# Altium integrated library Analog Devices Temperature Sensors.IntLib: 271 symbols (part 3 of 14)
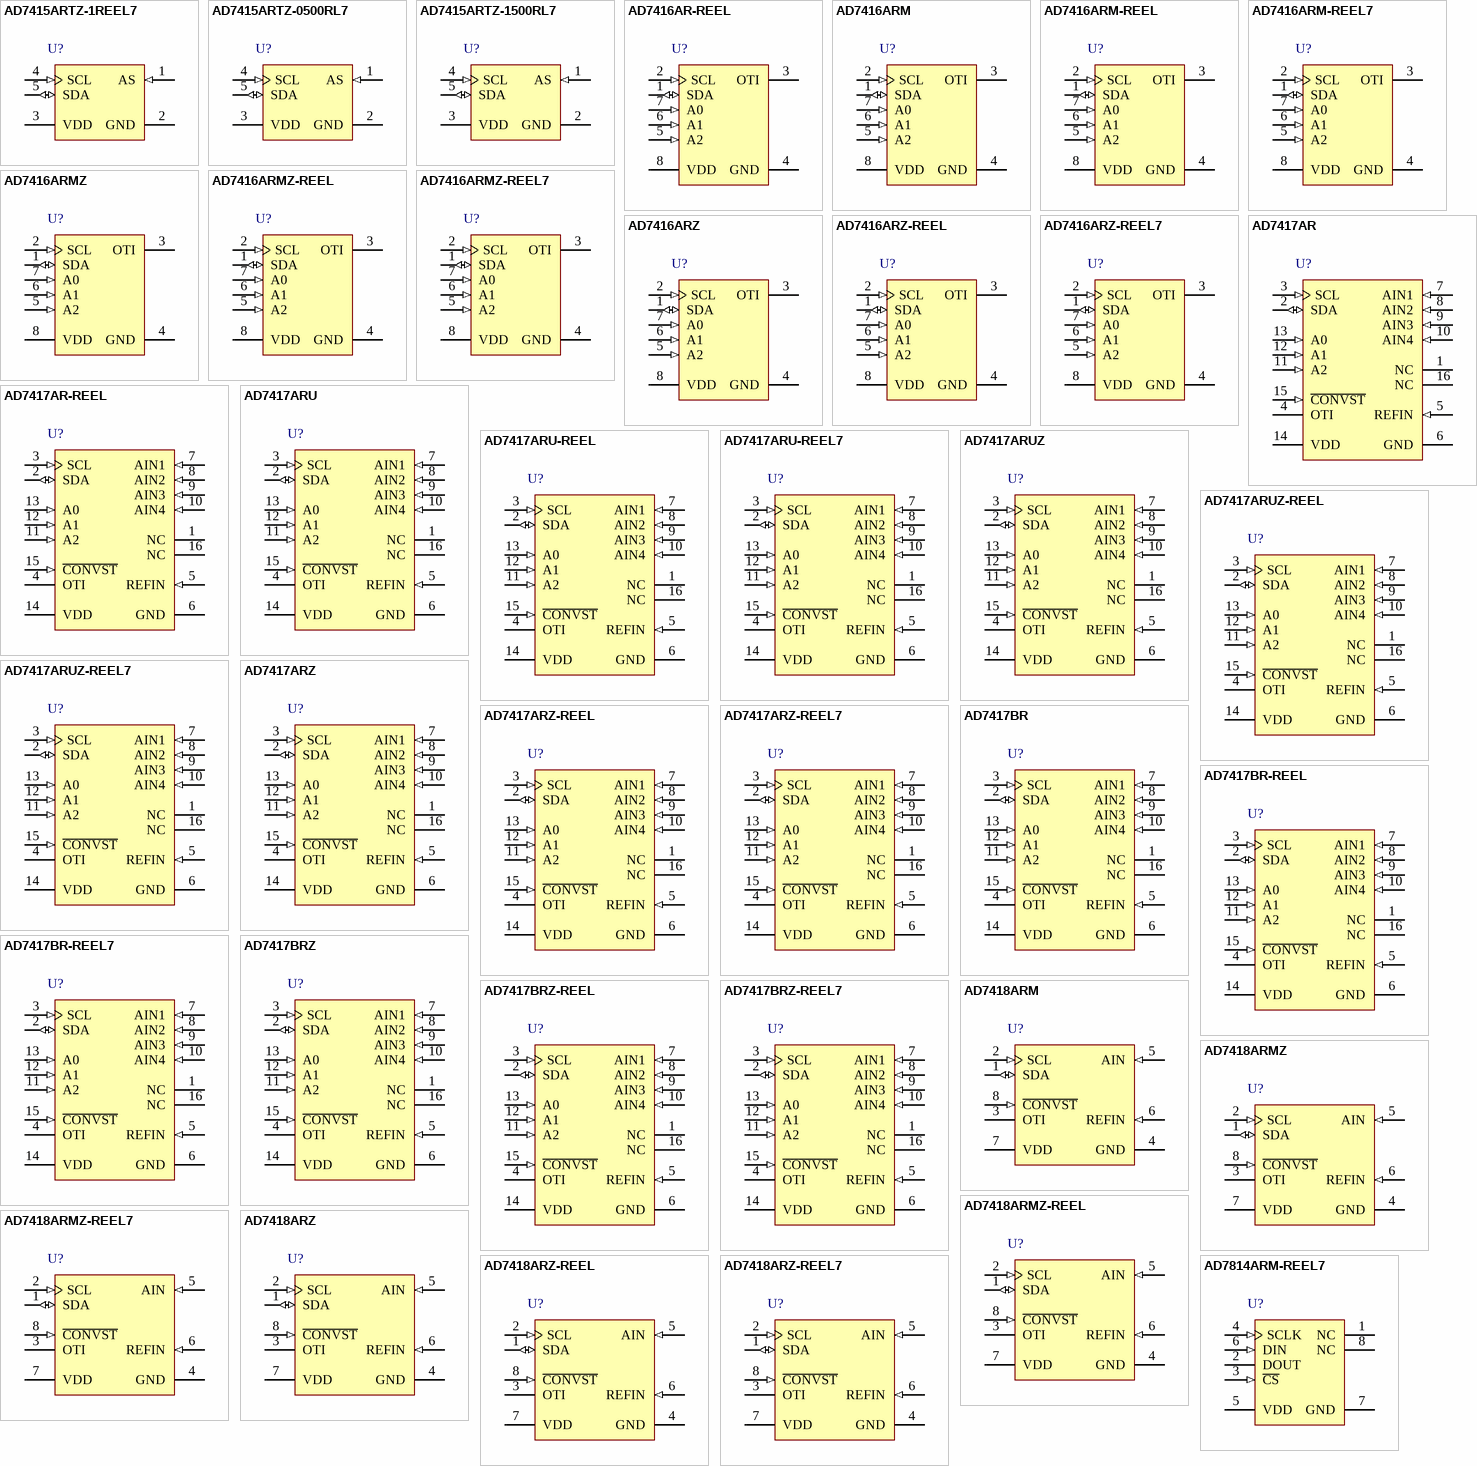
[diagram p9: symbols AD7415ARTZ-1REEL7 to AD7814ARM-REEL7]

## AD7416ARMZ-REEL7
designator U?
10-Bit Digital Temperature Sensor and Four Single-Channel ADCs, 2.7 to 5.5 V Supply, Industrial, 8-pin SOP (RM-8), Reel; Manufacturer: Analog Devices; PartNumber: AD7416ARMZ-REEL7; DatasheetVersion: Rev. I; PackageVersion: 08/2005; PackageReference: RM-8; PackageDescription: 8-Pin Mini Small Outline Package, Body 3 x 3 mm, Pitch 0.65 mm; Supplier 1: Digi-Key; Supplier Part Number 1: AD7416ARMZ-REEL7TR-ND; Supplier 2: Digi-Key; Supplier Part Number 2: AD7416ARMZ-REEL7CT-ND; Supplier 3: Digi-Key; Supplier Part Number 3: AD7416ARMZ-REEL7DKR-ND; Supplier 4: Newark; Supplier Part Number 4: 59K4788; Supplier 5: Mouser; Supplier Part Number 5: 584-AD7416ARMZ-R7; Packing: Reel; Supply Voltage Range: 2.7 to 5.5 V; Mounting Technology: Surface Mount; Code_JEDEC: MO-187-AA; ComponentLink1Description: Manufacturer URL; ComponentLink1URL: http://www.analog.com/en/index.html; ComponentLink2Description: Datasheet; ComponentLink2URL: http://www.analog.com/static/imported-files/data_sheets/AD7416_7417_7418.pdf; ComponentLink3Description: Package Specification; ComponentLink3URL: http://www.analog.com/static/imported-files/packages/PKG_PDF/MSOP%28RM%29/RM_8.pdf; ComponentLink4Description: Product URL; ComponentLink4URL: http://www.analog.com/en/mems-sensors/digital-temperature-sensors/ad7416/products/product.html
footprint ADI-RM-8_N (SOP, 8-Leads, Body 3x3mm, Pitch 0.65mm, IPC Medium Density)
footprint ADI-RM-8_L (SOP, 8-Leads, Body 3x3mm, Pitch 0.65mm, IPC High Density)
footprint ADI-RM-8_M (SOP, 8-Leads, Body 3x3mm, Pitch 0.65mm, IPC Low Density)
pins: 1 SDA (io) "Digital I/O. Serial bus bidirectional data. Push-pull output.", 2 SCL (in) "Digital Input. Serial bus clock.", 3 OTI (oc) "This pin is a logic output. The OTI is set if the result of a conversion on Channel 0 (temperature sensor) is greater than an 8-bit word in the TOTI setpoint register. The signal is reset at the end of a serial read (See Datasheet)", 4 GND (power) "Ground reference for track-and-hold, comparator and capacitor DAC, and digital circuitry.", 5 A2 (in) "Digital Input. This is the highest programmable bit of the serial bus address.", 6 A1 (in) "Digital Input. This is the middle programmable bit of the serial bus address.", 7 A0 (in) "Digital Input. This is the lowest programmable bit of the serial bus address.", 8 VDD (power) "Positive Supply Voltage, 2.7 V to 5.5 V."

## AD7416ARZ
designator U?
10-Bit Digital Temperature Sensor and Four Single-Channel ADCs, 2.7 to 5.5 V Supply, Industrial, 8-pin SOIC (R-8), Tube; Manufacturer: Analog Devices; PartNumber: AD7416ARZ; DatasheetVersion: Rev. I; PackageVersion: 060506-A, 06/2006; PackageReference: R-8; PackageDescription: 8-Pin Standard Small Outline Package, Body 4.9 x 3.9 mm, Pitch 1.27 mm; Supplier 1: Digi-Key; Supplier Part Number 1: AD7416ARZ-ND; Supplier 2: Farnell; Supplier Part Number 2: 9425560; Supplier 3: Newark; Supplier Part Number 3: 31M4253; Supplier 4: Newark; Supplier Part Number 4: 19M0868; Supplier 5: Mouser; Supplier Part Number 5: 584-AD7416ARZ; Packing: Tube; Supply Voltage Range: 2.7 to 5.5 V; Mounting Technology: Surface Mount; Code_JEDEC: MS-012-AA; ComponentLink1Description: Manufacturer URL; ComponentLink1URL: http://www.analog.com/en/index.html; ComponentLink2Description: Datasheet; ComponentLink2URL: http://www.analog.com/static/imported-files/data_sheets/AD7416_7417_7418.pdf; ComponentLink3Description: Package Specification; ComponentLink3URL: http://www.analog.com/static/imported-files/packages/PKG_PDF/SOIC_Narrow%20(R)/R_8.pdf; ComponentLink4Description: Product URL; ComponentLink4URL: http://www.analog.com/en/mems-sensors/digital-temperature-sensors/ad7416/products/product.html
footprint ADI-R-8_N (SOIC, 8-Leads, Body 4.9x3.9mm, Pitch 1.27mm, IPC Medium Density)
footprint ADI-R-8_L (SOIC, 8-Leads, Body 4.9x3.9mm, Pitch 1.27mm, IPC High Density)
footprint ADI-R-8_M (SOIC, 8-Leads, Body 4.9x3.9mm, Pitch 1.27mm, IPC Low Density)
pins: 1 SDA (io) "Digital I/O. Serial bus bidirectional data. Push-pull output.", 2 SCL (in) "Digital Input. Serial bus clock.", 3 OTI (oc) "This pin is a logic output. The OTI is set if the result of a conversion on Channel 0 (temperature sensor) is greater than an 8-bit word in the TOTI setpoint register. The signal is reset at the end of a serial read (See Datasheet)", 4 GND (power) "Ground reference for track-and-hold, comparator and capacitor DAC, and digital circuitry.", 5 A2 (in) "Digital Input. This is the highest programmable bit of the serial bus address.", 6 A1 (in) "Digital Input. This is the middle programmable bit of the serial bus address.", 7 A0 (in) "Digital Input. This is the lowest programmable bit of the serial bus address.", 8 VDD (power) "Positive Supply Voltage, 2.7 V to 5.5 V."

## AD7416ARZ-REEL
designator U?
10-Bit Digital Temperature Sensor and Four Single-Channel ADCs, 2.7 to 5.5 V Supply, Industrial, 8-pin SOIC (R-8), Reel; Manufacturer: Analog Devices; PartNumber: AD7416ARZ-REEL; DatasheetVersion: Rev. I; PackageVersion: 060506-A, 06/2006; PackageReference: R-8; PackageDescription: 8-Pin Standard Small Outline Package, Body 4.9 x 3.9 mm, Pitch 1.27 mm; Supplier 1: Digi-Key; Supplier Part Number 1: AD7416ARZ-REEL-ND; Supplier 2: Newark; Supplier Part Number 2: 59K4790; Supplier 3: Mouser; Supplier Part Number 3: 584-AD7416ARZ-R; Packing: Reel; Supply Voltage Range: 2.7 to 5.5 V; Mounting Technology: Surface Mount; Code_JEDEC: MS-012-AA; ComponentLink1Description: Manufacturer URL; ComponentLink1URL: http://www.analog.com/en/index.html; ComponentLink2Description: Datasheet; ComponentLink2URL: http://www.analog.com/static/imported-files/data_sheets/AD7416_7417_7418.pdf; ComponentLink3Description: Package Specification; ComponentLink3URL: http://www.analog.com/static/imported-files/packages/PKG_PDF/SOIC_Narrow%20(R)/R_8.pdf; ComponentLink4Description: Product URL; ComponentLink4URL: http://www.analog.com/en/mems-sensors/digital-temperature-sensors/ad7416/products/product.html
footprint ADI-R-8_N (SOIC, 8-Leads, Body 4.9x3.9mm, Pitch 1.27mm, IPC Medium Density)
footprint ADI-R-8_L (SOIC, 8-Leads, Body 4.9x3.9mm, Pitch 1.27mm, IPC High Density)
footprint ADI-R-8_M (SOIC, 8-Leads, Body 4.9x3.9mm, Pitch 1.27mm, IPC Low Density)
pins: 1 SDA (io) "Digital I/O. Serial bus bidirectional data. Push-pull output.", 2 SCL (in) "Digital Input. Serial bus clock.", 3 OTI (oc) "This pin is a logic output. The OTI is set if the result of a conversion on Channel 0 (temperature sensor) is greater than an 8-bit word in the TOTI setpoint register. The signal is reset at the end of a serial read (See Datasheet)", 4 GND (power) "Ground reference for track-and-hold, comparator and capacitor DAC, and digital circuitry.", 5 A2 (in) "Digital Input. This is the highest programmable bit of the serial bus address.", 6 A1 (in) "Digital Input. This is the middle programmable bit of the serial bus address.", 7 A0 (in) "Digital Input. This is the lowest programmable bit of the serial bus address.", 8 VDD (power) "Positive Supply Voltage, 2.7 V to 5.5 V."

## AD7416ARZ-REEL7
designator U?
10-Bit Digital Temperature Sensor and Four Single-Channel ADCs, 2.7 to 5.5 V Supply, Industrial, 8-pin SOIC (R-8), Reel; Manufacturer: Analog Devices; PartNumber: AD7416ARZ-REEL7; DatasheetVersion: Rev. I; PackageVersion: 060506-A, 06/2006; PackageReference: R-8; PackageDescription: 8-Pin Standard Small Outline Package, Body 4.9 x 3.9 mm, Pitch 1.27 mm; Supplier 1: Digi-Key; Supplier Part Number 1: AD7416ARZ-REEL7TR-ND; Supplier 2: Digi-Key; Supplier Part Number 2: AD7416ARZ-REEL7CT-ND; Supplier 3: Digi-Key; Supplier Part Number 3: AD7416ARZ-REEL7DKR-ND; Supplier 4: Newark; Supplier Part Number 4: 59K4791; Supplier 5: Mouser; Supplier Part Number 5: 584-AD7416ARZ-R7; Packing: Reel; Supply Voltage Range: 2.7 to 5.5 V; Mounting Technology: Surface Mount; Code_JEDEC: MS-012-AA; ComponentLink1Description: Manufacturer URL; ComponentLink1URL: http://www.analog.com/en/index.html; ComponentLink2Description: Datasheet; ComponentLink2URL: http://www.analog.com/static/imported-files/data_sheets/AD7416_7417_7418.pdf; ComponentLink3Description: Package Specification; ComponentLink3URL: http://www.analog.com/static/imported-files/packages/PKG_PDF/SOIC_Narrow%20(R)/R_8.pdf; ComponentLink4Description: Product URL; ComponentLink4URL: http://www.analog.com/en/mems-sensors/digital-temperature-sensors/ad7416/products/product.html
footprint ADI-R-8_N (SOIC, 8-Leads, Body 4.9x3.9mm, Pitch 1.27mm, IPC Medium Density)
footprint ADI-R-8_L (SOIC, 8-Leads, Body 4.9x3.9mm, Pitch 1.27mm, IPC High Density)
footprint ADI-R-8_M (SOIC, 8-Leads, Body 4.9x3.9mm, Pitch 1.27mm, IPC Low Density)
pins: 1 SDA (io) "Digital I/O. Serial bus bidirectional data. Push-pull output.", 2 SCL (in) "Digital Input. Serial bus clock.", 3 OTI (oc) "This pin is a logic output. The OTI is set if the result of a conversion on Channel 0 (temperature sensor) is greater than an 8-bit word in the TOTI setpoint register. The signal is reset at the end of a serial read (See Datasheet)", 4 GND (power) "Ground reference for track-and-hold, comparator and capacitor DAC, and digital circuitry.", 5 A2 (in) "Digital Input. This is the highest programmable bit of the serial bus address.", 6 A1 (in) "Digital Input. This is the middle programmable bit of the serial bus address.", 7 A0 (in) "Digital Input. This is the lowest programmable bit of the serial bus address.", 8 VDD (power) "Positive Supply Voltage, 2.7 V to 5.5 V."

## AD7417AR
designator U?
10-Bit Digital Temperature Sensor and Four Single-Channel ADCs, 2.7 to 5.5 V Supply, Industrial, 16-pin SOIC (R-16), Tube; Manufacturer: Analog Devices; PartNumber: AD7417AR; #_ADC_channels: 4; DatasheetVersion: Rev. I; PackageVersion: 060606-A, 06/2006; PackageReference: R-16; PackageDescription: 16-Pin Standard Small Outline Package, Body 9.9 x 3.9 mm, Pitch 1.27 mm; Supplier 1: Digi-Key; Supplier Part Number 1: AD7417AR-ND; Supplier 2: Newark; Supplier Part Number 2: 56J9304; Supplier 3: Mouser; Supplier Part Number 3: 584-AD7417AR; Packing: Tube; Supply Voltage Range: 2.7 to 5.5 V; Mounting Technology: Surface Mount; Code_JEDEC: MS-012-AC; ComponentLink1Description: Manufacturer URL; ComponentLink1URL: http://www.analog.com/en/index.html; ComponentLink2Description: Datasheet; ComponentLink2URL: http://www.analog.com/static/imported-files/data_sheets/AD7416_7417_7418.pdf; ComponentLink3Description: Package Specification; ComponentLink3URL: http://www.analog.com/static/imported-files/packages/PKG_PDF/SOIC_Narrow%20(R)/R_16.pdf; ComponentLink4Description: Product URL; ComponentLink4URL: http://www.analog.com/en/mems-sensors/digital-temperature-sensors/ad7417/products/product.html
footprint ADI-R-16_N (SOIC, 16-Leads, Body 9.9x3.9mm, Pitch 1.27mm, IPC Medium Density)
footprint ADI-R-16_L (SOIC, 16-Leads, Body 9.9x3.9mm, Pitch 1.27mm, IPC High Density)
footprint ADI-R-16_M (SOIC, 16-Leads, Body 9.9x3.9mm, Pitch 1.27mm, IPC Low Density)
pins: 1 NC "No Connection. Do not connect anything to this pin.", 2 SDA (io) "Digital I/O. Serial bus bidirectional data. Push-pull output.", 3 SCL (in) "Digital Input. Serial bus clock.", 4 OTI (oc) "This pin is a logic output. The overtemperature indicator (OTI) is set if the result of a conversion on Channel 0 (temperature sensor) is greater than an 8-bit word in the TOTI setpoint register. The signal is reset at the (See Datasheet)", 5 REFIN (in) "Reference Input. An external 2.5 V reference can be connected to the AD7417 at this pin. To enable the on-chip reference, the REFIN pin should be tied to GND. If an external reference is connected to the AD7417, the internal (See Datasheet)", 6 GND (power) "Ground reference for track-and-hold, comparator and capacitor DAC, and digital circuitry.", 7 AIN1 (in) "Analog Input Channels. The AD7417 has four analog input channels. The input channels are single-ended with respect to GND. The input channels can convert voltage signals in the range of 0 V to VREF. A channel is selected by (See Datasheet)", 8 AIN2 (in) "Analog Input Channels. The AD7417 has four analog input channels. The input channels are single-ended with respect to GND. The input channels can convert voltage signals in the range of 0 V to VREF. A channel is selected by (See Datasheet)", 9 AIN3 (in) "Analog Input Channels. The AD7417 has four analog input channels. The input channels are single-ended with respect to GND. The input channels can convert voltage signals in the range of 0 V to VREF. A channel is selected by (See Datasheet)", 10 AIN4 (in) "Analog Input Channels. The AD7417 has four analog input channels. The input channels are single-ended with respect to GND. The input channels can convert voltage signals in the range of 0 V to VREF. A channel is selected by (See Datasheet)", 11 A2 (in) "Digital Input. This is the highest programmable bit of the serial bus address.", 12 A1 (in) "Digital Input. This is the middle programmable bit of the serial bus address.", 13 A0 (in) "Digital Input. This is the lowest programmable bit of the serial bus address.", 14 VDD (power) "Positive Supply Voltage, 2.7 V to 5.5 V.", 15 ~{CONVST} (in) "Logic Input Signal. Convert start signal. The rising edge of this signal fully powers up the part. The power-up time for the part is 4 µs. If the C\O\N\V\S\T\ pulse is greater than 4 µs, the falling edge of C\O\N\V\S\T\ (See Datasheet)", 16 NC "No Connection. Do not connect anything to this pin."

## AD7417AR-REEL
designator U?
10-Bit Digital Temperature Sensor and Four Single-Channel ADCs, 2.7 to 5.5 V Supply, Industrial, 16-pin SOIC (R-16), Reel; Manufacturer: Analog Devices; PartNumber: AD7417AR-REEL; #_ADC_channels: 4; DatasheetVersion: Rev. I; PackageVersion: 060606-A, 06/2006; PackageReference: R-16; PackageDescription: 16-Pin Standard Small Outline Package, Body 9.9 x 3.9 mm, Pitch 1.27 mm; Supplier 1: Digi-Key; Supplier Part Number 1: AD7417AR-REEL-ND; Supplier 2: Mouser; Supplier Part Number 2: 584-AD7417AR-R; Packing: Reel; Supply Voltage Range: 2.7 to 5.5 V; Mounting Technology: Surface Mount; Code_JEDEC: MS-012-AC; ComponentLink1Description: Manufacturer URL; ComponentLink1URL: http://www.analog.com/en/index.html; ComponentLink2Description: Datasheet; ComponentLink2URL: http://www.analog.com/static/imported-files/data_sheets/AD7416_7417_7418.pdf; ComponentLink3Description: Package Specification; ComponentLink3URL: http://www.analog.com/static/imported-files/packages/PKG_PDF/SOIC_Narrow%20(R)/R_16.pdf; ComponentLink4Description: Product URL; ComponentLink4URL: http://www.analog.com/en/mems-sensors/digital-temperature-sensors/ad7417/products/product.html
footprint ADI-R-16_N (SOIC, 16-Leads, Body 9.9x3.9mm, Pitch 1.27mm, IPC Medium Density)
footprint ADI-R-16_L (SOIC, 16-Leads, Body 9.9x3.9mm, Pitch 1.27mm, IPC High Density)
footprint ADI-R-16_M (SOIC, 16-Leads, Body 9.9x3.9mm, Pitch 1.27mm, IPC Low Density)
pins: 1 NC "No Connection. Do not connect anything to this pin.", 2 SDA (io) "Digital I/O. Serial bus bidirectional data. Push-pull output.", 3 SCL (in) "Digital Input. Serial bus clock.", 4 OTI (oc) "This pin is a logic output. The overtemperature indicator (OTI) is set if the result of a conversion on Channel 0 (temperature sensor) is greater than an 8-bit word in the TOTI setpoint register. The signal is reset at the (See Datasheet)", 5 REFIN (in) "Reference Input. An external 2.5 V reference can be connected to the AD7417 at this pin. To enable the on-chip reference, the REFIN pin should be tied to GND. If an external reference is connected to the AD7417, the internal (See Datasheet)", 6 GND (power) "Ground reference for track-and-hold, comparator and capacitor DAC, and digital circuitry.", 7 AIN1 (in) "Analog Input Channels. The AD7417 has four analog input channels. The input channels are single-ended with respect to GND. The input channels can convert voltage signals in the range of 0 V to VREF. A channel is selected by (See Datasheet)", 8 AIN2 (in) "Analog Input Channels. The AD7417 has four analog input channels. The input channels are single-ended with respect to GND. The input channels can convert voltage signals in the range of 0 V to VREF. A channel is selected by (See Datasheet)", 9 AIN3 (in) "Analog Input Channels. The AD7417 has four analog input channels. The input channels are single-ended with respect to GND. The input channels can convert voltage signals in the range of 0 V to VREF. A channel is selected by (See Datasheet)", 10 AIN4 (in) "Analog Input Channels. The AD7417 has four analog input channels. The input channels are single-ended with respect to GND. The input channels can convert voltage signals in the range of 0 V to VREF. A channel is selected by (See Datasheet)", 11 A2 (in) "Digital Input. This is the highest programmable bit of the serial bus address.", 12 A1 (in) "Digital Input. This is the middle programmable bit of the serial bus address.", 13 A0 (in) "Digital Input. This is the lowest programmable bit of the serial bus address.", 14 VDD (power) "Positive Supply Voltage, 2.7 V to 5.5 V.", 15 ~{CONVST} (in) "Logic Input Signal. Convert start signal. The rising edge of this signal fully powers up the part. The power-up time for the part is 4 µs. If the C\O\N\V\S\T\ pulse is greater than 4 µs, the falling edge of C\O\N\V\S\T\ (See Datasheet)", 16 NC "No Connection. Do not connect anything to this pin."

## AD7417ARU
designator U?
10-Bit Digital Temperature Sensor and Four Single-Channel ADCs, 2.7 to 5.5 V Supply, Industrial, 16-pin SOP (RU-16), Tube; Manufacturer: Analog Devices; PartNumber: AD7417ARU; #_ADC_channels: 4; DatasheetVersion: Rev. I; PackageVersion: 11/2002; PackageReference: RU-16; PackageDescription: 16-Pin Thin Shrink Small Outline Package, Body 5 x 4.4 mm, Pitch 0.65 mm; Supplier 1: Digi-Key; Supplier Part Number 1: AD7417ARU-ND; Supplier 2: Mouser; Supplier Part Number 2: 584-AD7417ARU; Packing: Tube; Supply Voltage Range: 2.7 to 5.5 V; Mounting Technology: Surface Mount; Code_JEDEC: MO-153AB; ComponentLink1Description: Manufacturer URL; ComponentLink1URL: http://www.analog.com/en/index.html; ComponentLink2Description: Datasheet; ComponentLink2URL: http://www.analog.com/static/imported-files/data_sheets/AD7416_7417_7418.pdf; ComponentLink3Description: Package Specification; ComponentLink3URL: http:/www.analog.com/static/imported-files/packages/36244347913743854010197452789RU16.pdf; ComponentLink4Description: Product URL; ComponentLink4URL: http://www.analog.com/en/mems-sensors/digital-temperature-sensors/ad7417/products/product.html
footprint ADI-RU-16_N (SOP, 16-Leads, Body 5x4.4mm, Pitch 0.65mm, IPC Medium Density)
footprint ADI-RU-16_L (SOP, 16-Leads, Body 5x4.4mm, Pitch 0.65mm, IPC High Density)
footprint ADI-RU-16_M (SOP, 16-Leads, Body 5x4.4mm, Pitch 0.65mm, IPC Low Density)
pins: 1 NC "No Connection. Do not connect anything to this pin.", 2 SDA (io) "Digital I/O. Serial bus bidirectional data. Push-pull output.", 3 SCL (in) "Digital Input. Serial bus clock.", 4 OTI (oc) "This pin is a logic output. The overtemperature indicator (OTI) is set if the result of a conversion on Channel 0 (temperature sensor) is greater than an 8-bit word in the TOTI setpoint register. The signal is reset at the (See Datasheet)", 5 REFIN (in) "Reference Input. An external 2.5 V reference can be connected to the AD7417 at this pin. To enable the on-chip reference, the REFIN pin should be tied to GND. If an external reference is connected to the AD7417, the internal (See Datasheet)", 6 GND (power) "Ground reference for track-and-hold, comparator and capacitor DAC, and digital circuitry.", 7 AIN1 (in) "Analog Input Channels. The AD7417 has four analog input channels. The input channels are single-ended with respect to GND. The input channels can convert voltage signals in the range of 0 V to VREF. A channel is selected by (See Datasheet)", 8 AIN2 (in) "Analog Input Channels. The AD7417 has four analog input channels. The input channels are single-ended with respect to GND. The input channels can convert voltage signals in the range of 0 V to VREF. A channel is selected by (See Datasheet)", 9 AIN3 (in) "Analog Input Channels. The AD7417 has four analog input channels. The input channels are single-ended with respect to GND. The input channels can convert voltage signals in the range of 0 V to VREF. A channel is selected by (See Datasheet)", 10 AIN4 (in) "Analog Input Channels. The AD7417 has four analog input channels. The input channels are single-ended with respect to GND. The input channels can convert voltage signals in the range of 0 V to VREF. A channel is selected by (See Datasheet)", 11 A2 (in) "Digital Input. This is the highest programmable bit of the serial bus address.", 12 A1 (in) "Digital Input. This is the middle programmable bit of the serial bus address.", 13 A0 (in) "Digital Input. This is the lowest programmable bit of the serial bus address.", 14 VDD (power) "Positive Supply Voltage, 2.7 V to 5.5 V.", 15 ~{CONVST} (in) "Logic Input Signal. Convert start signal. The rising edge of this signal fully powers up the part. The power-up time for the part is 4 µs. If the C\O\N\V\S\T\ pulse is greater than 4 µs, the falling edge of C\O\N\V\S\T\ (See Datasheet)", 16 NC "No Connection. Do not connect anything to this pin."

## AD7417ARU-REEL
designator U?
10-Bit Digital Temperature Sensor and Four Single-Channel ADCs, 2.7 to 5.5 V Supply, Industrial, 16-pin SOP (RU-16), Reel; Manufacturer: Analog Devices; PartNumber: AD7417ARU-REEL; #_ADC_channels: 4; DatasheetVersion: Rev. I; PackageVersion: 11/2002; PackageReference: RU-16; PackageDescription: 16-Pin Thin Shrink Small Outline Package, Body 5 x 4.4 mm, Pitch 0.65 mm; Supplier 1: Digi-Key; Supplier Part Number 1: AD7417ARU-REEL-ND; Supplier 2: Newark; Supplier Part Number 2: 09B5704; Supplier 3: Mouser; Supplier Part Number 3: 584-AD7417ARU-R; Packing: Reel; Supply Voltage Range: 2.7 to 5.5 V; Mounting Technology: Surface Mount; Code_JEDEC: MO-153AB; ComponentLink1Description: Manufacturer URL; ComponentLink1URL: http://www.analog.com/en/index.html; ComponentLink2Description: Datasheet; ComponentLink2URL: http://www.analog.com/static/imported-files/data_sheets/AD7416_7417_7418.pdf; ComponentLink3Description: Package Specification; ComponentLink3URL: http:/www.analog.com/static/imported-files/packages/36244347913743854010197452789RU16.pdf; ComponentLink4Description: Product URL; ComponentLink4URL: http://www.analog.com/en/mems-sensors/digital-temperature-sensors/ad7417/products/product.html
footprint ADI-RU-16_N (SOP, 16-Leads, Body 5x4.4mm, Pitch 0.65mm, IPC Medium Density)
footprint ADI-RU-16_L (SOP, 16-Leads, Body 5x4.4mm, Pitch 0.65mm, IPC High Density)
footprint ADI-RU-16_M (SOP, 16-Leads, Body 5x4.4mm, Pitch 0.65mm, IPC Low Density)
pins: 1 NC "No Connection. Do not connect anything to this pin.", 2 SDA (io) "Digital I/O. Serial bus bidirectional data. Push-pull output.", 3 SCL (in) "Digital Input. Serial bus clock.", 4 OTI (oc) "This pin is a logic output. The overtemperature indicator (OTI) is set if the result of a conversion on Channel 0 (temperature sensor) is greater than an 8-bit word in the TOTI setpoint register. The signal is reset at the (See Datasheet)", 5 REFIN (in) "Reference Input. An external 2.5 V reference can be connected to the AD7417 at this pin. To enable the on-chip reference, the REFIN pin should be tied to GND. If an external reference is connected to the AD7417, the internal (See Datasheet)", 6 GND (power) "Ground reference for track-and-hold, comparator and capacitor DAC, and digital circuitry.", 7 AIN1 (in) "Analog Input Channels. The AD7417 has four analog input channels. The input channels are single-ended with respect to GND. The input channels can convert voltage signals in the range of 0 V to VREF. A channel is selected by (See Datasheet)", 8 AIN2 (in) "Analog Input Channels. The AD7417 has four analog input channels. The input channels are single-ended with respect to GND. The input channels can convert voltage signals in the range of 0 V to VREF. A channel is selected by (See Datasheet)", 9 AIN3 (in) "Analog Input Channels. The AD7417 has four analog input channels. The input channels are single-ended with respect to GND. The input channels can convert voltage signals in the range of 0 V to VREF. A channel is selected by (See Datasheet)", 10 AIN4 (in) "Analog Input Channels. The AD7417 has four analog input channels. The input channels are single-ended with respect to GND. The input channels can convert voltage signals in the range of 0 V to VREF. A channel is selected by (See Datasheet)", 11 A2 (in) "Digital Input. This is the highest programmable bit of the serial bus address.", 12 A1 (in) "Digital Input. This is the middle programmable bit of the serial bus address.", 13 A0 (in) "Digital Input. This is the lowest programmable bit of the serial bus address.", 14 VDD (power) "Positive Supply Voltage, 2.7 V to 5.5 V.", 15 ~{CONVST} (in) "Logic Input Signal. Convert start signal. The rising edge of this signal fully powers up the part. The power-up time for the part is 4 µs. If the C\O\N\V\S\T\ pulse is greater than 4 µs, the falling edge of C\O\N\V\S\T\ (See Datasheet)", 16 NC "No Connection. Do not connect anything to this pin."

## AD7417ARU-REEL7
designator U?
10-Bit Digital Temperature Sensor and Four Single-Channel ADCs, 2.7 to 5.5 V Supply, Industrial, 16-pin SOP (RU-16), Reel; Manufacturer: Analog Devices; PartNumber: AD7417ARU-REEL7; #_ADC_channels: 4; DatasheetVersion: Rev. I; PackageVersion: 11/2002; PackageReference: RU-16; PackageDescription: 16-Pin Thin Shrink Small Outline Package, Body 5 x 4.4 mm, Pitch 0.65 mm; Supplier 1: Digi-Key; Supplier Part Number 1: AD7417ARU-REEL7-ND; Supplier 2: Newark; Supplier Part Number 2: 09B5705; Supplier 3: Mouser; Supplier Part Number 3: 584-AD7417ARU-R7; Packing: Reel; Supply Voltage Range: 2.7 to 5.5 V; Mounting Technology: Surface Mount; Code_JEDEC: MO-153AB; ComponentLink1Description: Manufacturer URL; ComponentLink1URL: http://www.analog.com/en/index.html; ComponentLink2Description: Datasheet; ComponentLink2URL: http://www.analog.com/static/imported-files/data_sheets/AD7416_7417_7418.pdf; ComponentLink3Description: Package Specification; ComponentLink3URL: http:/www.analog.com/static/imported-files/packages/36244347913743854010197452789RU16.pdf; ComponentLink4Description: Product URL; ComponentLink4URL: http://www.analog.com/en/mems-sensors/digital-temperature-sensors/ad7417/products/product.html
footprint ADI-RU-16_N (SOP, 16-Leads, Body 5x4.4mm, Pitch 0.65mm, IPC Medium Density)
footprint ADI-RU-16_L (SOP, 16-Leads, Body 5x4.4mm, Pitch 0.65mm, IPC High Density)
footprint ADI-RU-16_M (SOP, 16-Leads, Body 5x4.4mm, Pitch 0.65mm, IPC Low Density)
pins: 1 NC "No Connection. Do not connect anything to this pin.", 2 SDA (io) "Digital I/O. Serial bus bidirectional data. Push-pull output.", 3 SCL (in) "Digital Input. Serial bus clock.", 4 OTI (oc) "This pin is a logic output. The overtemperature indicator (OTI) is set if the result of a conversion on Channel 0 (temperature sensor) is greater than an 8-bit word in the TOTI setpoint register. The signal is reset at the (See Datasheet)", 5 REFIN (in) "Reference Input. An external 2.5 V reference can be connected to the AD7417 at this pin. To enable the on-chip reference, the REFIN pin should be tied to GND. If an external reference is connected to the AD7417, the internal (See Datasheet)", 6 GND (power) "Ground reference for track-and-hold, comparator and capacitor DAC, and digital circuitry.", 7 AIN1 (in) "Analog Input Channels. The AD7417 has four analog input channels. The input channels are single-ended with respect to GND. The input channels can convert voltage signals in the range of 0 V to VREF. A channel is selected by (See Datasheet)", 8 AIN2 (in) "Analog Input Channels. The AD7417 has four analog input channels. The input channels are single-ended with respect to GND. The input channels can convert voltage signals in the range of 0 V to VREF. A channel is selected by (See Datasheet)", 9 AIN3 (in) "Analog Input Channels. The AD7417 has four analog input channels. The input channels are single-ended with respect to GND. The input channels can convert voltage signals in the range of 0 V to VREF. A channel is selected by (See Datasheet)", 10 AIN4 (in) "Analog Input Channels. The AD7417 has four analog input channels. The input channels are single-ended with respect to GND. The input channels can convert voltage signals in the range of 0 V to VREF. A channel is selected by (See Datasheet)", 11 A2 (in) "Digital Input. This is the highest programmable bit of the serial bus address.", 12 A1 (in) "Digital Input. This is the middle programmable bit of the serial bus address.", 13 A0 (in) "Digital Input. This is the lowest programmable bit of the serial bus address.", 14 VDD (power) "Positive Supply Voltage, 2.7 V to 5.5 V.", 15 ~{CONVST} (in) "Logic Input Signal. Convert start signal. The rising edge of this signal fully powers up the part. The power-up time for the part is 4 µs. If the C\O\N\V\S\T\ pulse is greater than 4 µs, the falling edge of C\O\N\V\S\T\ (See Datasheet)", 16 NC "No Connection. Do not connect anything to this pin."

## AD7417ARUZ
designator U?
10-Bit Digital Temperature Sensor and Four Single-Channel ADCs, 2.7 to 5.5 V Supply, Industrial, 16-pin SOP (RU-16), Tube; Manufacturer: Analog Devices; PartNumber: AD7417ARUZ; #_ADC_channels: 4; DatasheetVersion: Rev. I; PackageVersion: 11/2002; PackageReference: RU-16; PackageDescription: 16-Pin Thin Shrink Small Outline Package, Body 5 x 4.4 mm, Pitch 0.65 mm; Supplier 1: Digi-Key; Supplier Part Number 1: AD7417ARUZ-ND; Supplier 2: Farnell; Supplier Part Number 2: 2305758; Supplier 3: Newark; Supplier Part Number 3: 59K4792; Supplier 4: Mouser; Supplier Part Number 4: 584-AD7417ARUZ; Packing: Tube; Supply Voltage Range: 2.7 to 5.5 V; Mounting Technology: Surface Mount; Code_JEDEC: MO-153AB; ComponentLink1Description: Manufacturer URL; ComponentLink1URL: http://www.analog.com/en/index.html; ComponentLink2Description: Datasheet; ComponentLink2URL: http://www.analog.com/static/imported-files/data_sheets/AD7416_7417_7418.pdf; ComponentLink3Description: Package Specification; ComponentLink3URL: http:/www.analog.com/static/imported-files/packages/36244347913743854010197452789RU16.pdf; ComponentLink4Description: Product URL; ComponentLink4URL: http://www.analog.com/en/mems-sensors/digital-temperature-sensors/ad7417/products/product.html
footprint ADI-RU-16_N (SOP, 16-Leads, Body 5x4.4mm, Pitch 0.65mm, IPC Medium Density)
footprint ADI-RU-16_L (SOP, 16-Leads, Body 5x4.4mm, Pitch 0.65mm, IPC High Density)
footprint ADI-RU-16_M (SOP, 16-Leads, Body 5x4.4mm, Pitch 0.65mm, IPC Low Density)
pins: 1 NC "No Connection. Do not connect anything to this pin.", 2 SDA (io) "Digital I/O. Serial bus bidirectional data. Push-pull output.", 3 SCL (in) "Digital Input. Serial bus clock.", 4 OTI (oc) "This pin is a logic output. The overtemperature indicator (OTI) is set if the result of a conversion on Channel 0 (temperature sensor) is greater than an 8-bit word in the TOTI setpoint register. The signal is reset at the (See Datasheet)", 5 REFIN (in) "Reference Input. An external 2.5 V reference can be connected to the AD7417 at this pin. To enable the on-chip reference, the REFIN pin should be tied to GND. If an external reference is connected to the AD7417, the internal (See Datasheet)", 6 GND (power) "Ground reference for track-and-hold, comparator and capacitor DAC, and digital circuitry.", 7 AIN1 (in) "Analog Input Channels. The AD7417 has four analog input channels. The input channels are single-ended with respect to GND. The input channels can convert voltage signals in the range of 0 V to VREF. A channel is selected by (See Datasheet)", 8 AIN2 (in) "Analog Input Channels. The AD7417 has four analog input channels. The input channels are single-ended with respect to GND. The input channels can convert voltage signals in the range of 0 V to VREF. A channel is selected by (See Datasheet)", 9 AIN3 (in) "Analog Input Channels. The AD7417 has four analog input channels. The input channels are single-ended with respect to GND. The input channels can convert voltage signals in the range of 0 V to VREF. A channel is selected by (See Datasheet)", 10 AIN4 (in) "Analog Input Channels. The AD7417 has four analog input channels. The input channels are single-ended with respect to GND. The input channels can convert voltage signals in the range of 0 V to VREF. A channel is selected by (See Datasheet)", 11 A2 (in) "Digital Input. This is the highest programmable bit of the serial bus address.", 12 A1 (in) "Digital Input. This is the middle programmable bit of the serial bus address.", 13 A0 (in) "Digital Input. This is the lowest programmable bit of the serial bus address.", 14 VDD (power) "Positive Supply Voltage, 2.7 V to 5.5 V.", 15 ~{CONVST} (in) "Logic Input Signal. Convert start signal. The rising edge of this signal fully powers up the part. The power-up time for the part is 4 µs. If the C\O\N\V\S\T\ pulse is greater than 4 µs, the falling edge of C\O\N\V\S\T\ (See Datasheet)", 16 NC "No Connection. Do not connect anything to this pin."

## AD7417ARUZ-REEL
designator U?
10-Bit Digital Temperature Sensor and Four Single-Channel ADCs, 2.7 to 5.5 V Supply, Industrial, 16-pin SOP (RU-16), Reel; Manufacturer: Analog Devices; PartNumber: AD7417ARUZ-REEL; #_ADC_channels: 4; DatasheetVersion: Rev. I; PackageVersion: 11/2002; PackageReference: RU-16; PackageDescription: 16-Pin Thin Shrink Small Outline Package, Body 5 x 4.4 mm, Pitch 0.65 mm; Supplier 1: Digi-Key; Supplier Part Number 1: AD7417ARUZ-REEL-ND; Supplier 2: Newark; Supplier Part Number 2: 59K4793; Supplier 3: Mouser; Supplier Part Number 3: 584-AD7417ARUZ-R; Packing: Reel; Supply Voltage Range: 2.7 to 5.5 V; Mounting Technology: Surface Mount; Code_JEDEC: MO-153AB; ComponentLink1Description: Manufacturer URL; ComponentLink1URL: http://www.analog.com/en/index.html; ComponentLink2Description: Datasheet; ComponentLink2URL: http://www.analog.com/static/imported-files/data_sheets/AD7416_7417_7418.pdf; ComponentLink3Description: Package Specification; ComponentLink3URL: http:/www.analog.com/static/imported-files/packages/36244347913743854010197452789RU16.pdf; ComponentLink4Description: Product URL; ComponentLink4URL: http://www.analog.com/en/mems-sensors/digital-temperature-sensors/ad7417/products/product.html
footprint ADI-RU-16_N (SOP, 16-Leads, Body 5x4.4mm, Pitch 0.65mm, IPC Medium Density)
footprint ADI-RU-16_L (SOP, 16-Leads, Body 5x4.4mm, Pitch 0.65mm, IPC High Density)
footprint ADI-RU-16_M (SOP, 16-Leads, Body 5x4.4mm, Pitch 0.65mm, IPC Low Density)
pins: 1 NC "No Connection. Do not connect anything to this pin.", 2 SDA (io) "Digital I/O. Serial bus bidirectional data. Push-pull output.", 3 SCL (in) "Digital Input. Serial bus clock.", 4 OTI (oc) "This pin is a logic output. The overtemperature indicator (OTI) is set if the result of a conversion on Channel 0 (temperature sensor) is greater than an 8-bit word in the TOTI setpoint register. The signal is reset at the (See Datasheet)", 5 REFIN (in) "Reference Input. An external 2.5 V reference can be connected to the AD7417 at this pin. To enable the on-chip reference, the REFIN pin should be tied to GND. If an external reference is connected to the AD7417, the internal (See Datasheet)", 6 GND (power) "Ground reference for track-and-hold, comparator and capacitor DAC, and digital circuitry.", 7 AIN1 (in) "Analog Input Channels. The AD7417 has four analog input channels. The input channels are single-ended with respect to GND. The input channels can convert voltage signals in the range of 0 V to VREF. A channel is selected by (See Datasheet)", 8 AIN2 (in) "Analog Input Channels. The AD7417 has four analog input channels. The input channels are single-ended with respect to GND. The input channels can convert voltage signals in the range of 0 V to VREF. A channel is selected by (See Datasheet)", 9 AIN3 (in) "Analog Input Channels. The AD7417 has four analog input channels. The input channels are single-ended with respect to GND. The input channels can convert voltage signals in the range of 0 V to VREF. A channel is selected by (See Datasheet)", 10 AIN4 (in) "Analog Input Channels. The AD7417 has four analog input channels. The input channels are single-ended with respect to GND. The input channels can convert voltage signals in the range of 0 V to VREF. A channel is selected by (See Datasheet)", 11 A2 (in) "Digital Input. This is the highest programmable bit of the serial bus address.", 12 A1 (in) "Digital Input. This is the middle programmable bit of the serial bus address.", 13 A0 (in) "Digital Input. This is the lowest programmable bit of the serial bus address.", 14 VDD (power) "Positive Supply Voltage, 2.7 V to 5.5 V.", 15 ~{CONVST} (in) "Logic Input Signal. Convert start signal. The rising edge of this signal fully powers up the part. The power-up time for the part is 4 µs. If the C\O\N\V\S\T\ pulse is greater than 4 µs, the falling edge of C\O\N\V\S\T\ (See Datasheet)", 16 NC "No Connection. Do not connect anything to this pin."

## AD7417ARUZ-REEL7
designator U?
10-Bit Digital Temperature Sensor and Four Single-Channel ADCs, 2.7 to 5.5 V Supply, Industrial, 16-pin SOP (RU-16), Reel; Manufacturer: Analog Devices; PartNumber: AD7417ARUZ-REEL7; #_ADC_channels: 4; DatasheetVersion: Rev. I; PackageVersion: 11/2002; PackageReference: RU-16; PackageDescription: 16-Pin Thin Shrink Small Outline Package, Body 5 x 4.4 mm, Pitch 0.65 mm; Supplier 1: Digi-Key; Supplier Part Number 1: AD7417ARUZ-REEL7TR-ND; Supplier 2: Digi-Key; Supplier Part Number 2: AD7417ARUZ-REEL7CT-ND; Supplier 3: Digi-Key; Supplier Part Number 3: AD7417ARUZ-REEL7DKR-ND; Supplier 4: Mouser; Supplier Part Number 4: 584-AD7417ARUZ-R7; Packing: Reel; Supply Voltage Range: 2.7 to 5.5 V; Mounting Technology: Surface Mount; Code_JEDEC: MO-153AB; ComponentLink1Description: Manufacturer URL; ComponentLink1URL: http://www.analog.com/en/index.html; ComponentLink2Description: Datasheet; ComponentLink2URL: http://www.analog.com/static/imported-files/data_sheets/AD7416_7417_7418.pdf; ComponentLink3Description: Package Specification; ComponentLink3URL: http:/www.analog.com/static/imported-files/packages/36244347913743854010197452789RU16.pdf; ComponentLink4Description: Product URL; ComponentLink4URL: http://www.analog.com/en/mems-sensors/digital-temperature-sensors/ad7417/products/product.html
footprint ADI-RU-16_N (SOP, 16-Leads, Body 5x4.4mm, Pitch 0.65mm, IPC Medium Density)
footprint ADI-RU-16_L (SOP, 16-Leads, Body 5x4.4mm, Pitch 0.65mm, IPC High Density)
footprint ADI-RU-16_M (SOP, 16-Leads, Body 5x4.4mm, Pitch 0.65mm, IPC Low Density)
pins: 1 NC "No Connection. Do not connect anything to this pin.", 2 SDA (io) "Digital I/O. Serial bus bidirectional data. Push-pull output.", 3 SCL (in) "Digital Input. Serial bus clock.", 4 OTI (oc) "This pin is a logic output. The overtemperature indicator (OTI) is set if the result of a conversion on Channel 0 (temperature sensor) is greater than an 8-bit word in the TOTI setpoint register. The signal is reset at the (See Datasheet)", 5 REFIN (in) "Reference Input. An external 2.5 V reference can be connected to the AD7417 at this pin. To enable the on-chip reference, the REFIN pin should be tied to GND. If an external reference is connected to the AD7417, the internal (See Datasheet)", 6 GND (power) "Ground reference for track-and-hold, comparator and capacitor DAC, and digital circuitry.", 7 AIN1 (in) "Analog Input Channels. The AD7417 has four analog input channels. The input channels are single-ended with respect to GND. The input channels can convert voltage signals in the range of 0 V to VREF. A channel is selected by (See Datasheet)", 8 AIN2 (in) "Analog Input Channels. The AD7417 has four analog input channels. The input channels are single-ended with respect to GND. The input channels can convert voltage signals in the range of 0 V to VREF. A channel is selected by (See Datasheet)", 9 AIN3 (in) "Analog Input Channels. The AD7417 has four analog input channels. The input channels are single-ended with respect to GND. The input channels can convert voltage signals in the range of 0 V to VREF. A channel is selected by (See Datasheet)", 10 AIN4 (in) "Analog Input Channels. The AD7417 has four analog input channels. The input channels are single-ended with respect to GND. The input channels can convert voltage signals in the range of 0 V to VREF. A channel is selected by (See Datasheet)", 11 A2 (in) "Digital Input. This is the highest programmable bit of the serial bus address.", 12 A1 (in) "Digital Input. This is the middle programmable bit of the serial bus address.", 13 A0 (in) "Digital Input. This is the lowest programmable bit of the serial bus address.", 14 VDD (power) "Positive Supply Voltage, 2.7 V to 5.5 V.", 15 ~{CONVST} (in) "Logic Input Signal. Convert start signal. The rising edge of this signal fully powers up the part. The power-up time for the part is 4 µs. If the C\O\N\V\S\T\ pulse is greater than 4 µs, the falling edge of C\O\N\V\S\T\ (See Datasheet)", 16 NC "No Connection. Do not connect anything to this pin."

## AD7417ARZ
designator U?
10-Bit Digital Temperature Sensor and Four Single-Channel ADCs, 2.7 to 5.5 V Supply, Industrial, 16-pin SOIC (R-16), Tube; Manufacturer: Analog Devices; PartNumber: AD7417ARZ; #_ADC_channels: 4; DatasheetVersion: Rev. I; PackageVersion: 060606-A, 06/2006; PackageReference: R-16; PackageDescription: 16-Pin Standard Small Outline Package, Body 9.9 x 3.9 mm, Pitch 1.27 mm; Supplier 1: Digi-Key; Supplier Part Number 1: AD7417ARZ-ND; Supplier 2: Farnell; Supplier Part Number 2: 1079321; Supplier 3: Newark; Supplier Part Number 3: 19M1189; Supplier 4: Mouser; Supplier Part Number 4: 584-AD7417ARZ; Packing: Tube; Supply Voltage Range: 2.7 to 5.5 V; Mounting Technology: Surface Mount; Code_JEDEC: MS-012-AC; ComponentLink1Description: Manufacturer URL; ComponentLink1URL: http://www.analog.com/en/index.html; ComponentLink2Description: Datasheet; ComponentLink2URL: http://www.analog.com/static/imported-files/data_sheets/AD7416_7417_7418.pdf; ComponentLink3Description: Package Specification; ComponentLink3URL: http://www.analog.com/static/imported-files/packages/PKG_PDF/SOIC_Narrow%20(R)/R_16.pdf; ComponentLink4Description: Product URL; ComponentLink4URL: http://www.analog.com/en/mems-sensors/digital-temperature-sensors/ad7417/products/product.html
footprint ADI-R-16_N (SOIC, 16-Leads, Body 9.9x3.9mm, Pitch 1.27mm, IPC Medium Density)
footprint ADI-R-16_L (SOIC, 16-Leads, Body 9.9x3.9mm, Pitch 1.27mm, IPC High Density)
footprint ADI-R-16_M (SOIC, 16-Leads, Body 9.9x3.9mm, Pitch 1.27mm, IPC Low Density)
pins: 1 NC "No Connection. Do not connect anything to this pin.", 2 SDA (io) "Digital I/O. Serial bus bidirectional data. Push-pull output.", 3 SCL (in) "Digital Input. Serial bus clock.", 4 OTI (oc) "This pin is a logic output. The overtemperature indicator (OTI) is set if the result of a conversion on Channel 0 (temperature sensor) is greater than an 8-bit word in the TOTI setpoint register. The signal is reset at the (See Datasheet)", 5 REFIN (in) "Reference Input. An external 2.5 V reference can be connected to the AD7417 at this pin. To enable the on-chip reference, the REFIN pin should be tied to GND. If an external reference is connected to the AD7417, the internal (See Datasheet)", 6 GND (power) "Ground reference for track-and-hold, comparator and capacitor DAC, and digital circuitry.", 7 AIN1 (in) "Analog Input Channels. The AD7417 has four analog input channels. The input channels are single-ended with respect to GND. The input channels can convert voltage signals in the range of 0 V to VREF. A channel is selected by (See Datasheet)", 8 AIN2 (in) "Analog Input Channels. The AD7417 has four analog input channels. The input channels are single-ended with respect to GND. The input channels can convert voltage signals in the range of 0 V to VREF. A channel is selected by (See Datasheet)", 9 AIN3 (in) "Analog Input Channels. The AD7417 has four analog input channels. The input channels are single-ended with respect to GND. The input channels can convert voltage signals in the range of 0 V to VREF. A channel is selected by (See Datasheet)", 10 AIN4 (in) "Analog Input Channels. The AD7417 has four analog input channels. The input channels are single-ended with respect to GND. The input channels can convert voltage signals in the range of 0 V to VREF. A channel is selected by (See Datasheet)", 11 A2 (in) "Digital Input. This is the highest programmable bit of the serial bus address.", 12 A1 (in) "Digital Input. This is the middle programmable bit of the serial bus address.", 13 A0 (in) "Digital Input. This is the lowest programmable bit of the serial bus address.", 14 VDD (power) "Positive Supply Voltage, 2.7 V to 5.5 V.", 15 ~{CONVST} (in) "Logic Input Signal. Convert start signal. The rising edge of this signal fully powers up the part. The power-up time for the part is 4 µs. If the C\O\N\V\S\T\ pulse is greater than 4 µs, the falling edge of C\O\N\V\S\T\ (See Datasheet)", 16 NC "No Connection. Do not connect anything to this pin."

## AD7417ARZ-REEL
designator U?
10-Bit Digital Temperature Sensor and Four Single-Channel ADCs, 2.7 to 5.5 V Supply, Industrial, 16-pin SOIC (R-16), Reel; Manufacturer: Analog Devices; PartNumber: AD7417ARZ-REEL; #_ADC_channels: 4; DatasheetVersion: Rev. I; PackageVersion: 060606-A, 06/2006; PackageReference: R-16; PackageDescription: 16-Pin Standard Small Outline Package, Body 9.9 x 3.9 mm, Pitch 1.27 mm; Supplier 1: Digi-Key; Supplier Part Number 1: AD7417ARZ-REEL-ND; Supplier 2: Newark; Supplier Part Number 2: 59K4795; Supplier 3: Mouser; Supplier Part Number 3: 584-AD7417ARZ-R; Packing: Reel; Supply Voltage Range: 2.7 to 5.5 V; Mounting Technology: Surface Mount; Code_JEDEC: MS-012-AC; ComponentLink1Description: Manufacturer URL; ComponentLink1URL: http://www.analog.com/en/index.html; ComponentLink2Description: Datasheet; ComponentLink2URL: http://www.analog.com/static/imported-files/data_sheets/AD7416_7417_7418.pdf; ComponentLink3Description: Package Specification; ComponentLink3URL: http://www.analog.com/static/imported-files/packages/PKG_PDF/SOIC_Narrow%20(R)/R_16.pdf; ComponentLink4Description: Product URL; ComponentLink4URL: http://www.analog.com/en/mems-sensors/digital-temperature-sensors/ad7417/products/product.html
footprint ADI-R-16_N (SOIC, 16-Leads, Body 9.9x3.9mm, Pitch 1.27mm, IPC Medium Density)
footprint ADI-R-16_L (SOIC, 16-Leads, Body 9.9x3.9mm, Pitch 1.27mm, IPC High Density)
footprint ADI-R-16_M (SOIC, 16-Leads, Body 9.9x3.9mm, Pitch 1.27mm, IPC Low Density)
pins: 1 NC "No Connection. Do not connect anything to this pin.", 2 SDA (io) "Digital I/O. Serial bus bidirectional data. Push-pull output.", 3 SCL (in) "Digital Input. Serial bus clock.", 4 OTI (oc) "This pin is a logic output. The overtemperature indicator (OTI) is set if the result of a conversion on Channel 0 (temperature sensor) is greater than an 8-bit word in the TOTI setpoint register. The signal is reset at the (See Datasheet)", 5 REFIN (in) "Reference Input. An external 2.5 V reference can be connected to the AD7417 at this pin. To enable the on-chip reference, the REFIN pin should be tied to GND. If an external reference is connected to the AD7417, the internal (See Datasheet)", 6 GND (power) "Ground reference for track-and-hold, comparator and capacitor DAC, and digital circuitry.", 7 AIN1 (in) "Analog Input Channels. The AD7417 has four analog input channels. The input channels are single-ended with respect to GND. The input channels can convert voltage signals in the range of 0 V to VREF. A channel is selected by (See Datasheet)", 8 AIN2 (in) "Analog Input Channels. The AD7417 has four analog input channels. The input channels are single-ended with respect to GND. The input channels can convert voltage signals in the range of 0 V to VREF. A channel is selected by (See Datasheet)", 9 AIN3 (in) "Analog Input Channels. The AD7417 has four analog input channels. The input channels are single-ended with respect to GND. The input channels can convert voltage signals in the range of 0 V to VREF. A channel is selected by (See Datasheet)", 10 AIN4 (in) "Analog Input Channels. The AD7417 has four analog input channels. The input channels are single-ended with respect to GND. The input channels can convert voltage signals in the range of 0 V to VREF. A channel is selected by (See Datasheet)", 11 A2 (in) "Digital Input. This is the highest programmable bit of the serial bus address.", 12 A1 (in) "Digital Input. This is the middle programmable bit of the serial bus address.", 13 A0 (in) "Digital Input. This is the lowest programmable bit of the serial bus address.", 14 VDD (power) "Positive Supply Voltage, 2.7 V to 5.5 V.", 15 ~{CONVST} (in) "Logic Input Signal. Convert start signal. The rising edge of this signal fully powers up the part. The power-up time for the part is 4 µs. If the C\O\N\V\S\T\ pulse is greater than 4 µs, the falling edge of C\O\N\V\S\T\ (See Datasheet)", 16 NC "No Connection. Do not connect anything to this pin."